# EAGLE library part AE-ESP32-WROOM-32E-MINI (library MyLibrary)
ESP32-DEVKITC Check availability <https://pricing.snapeda.com/parts/ESP32-DEVKITC/Espressif%20Systems/view-part?ref=eda>
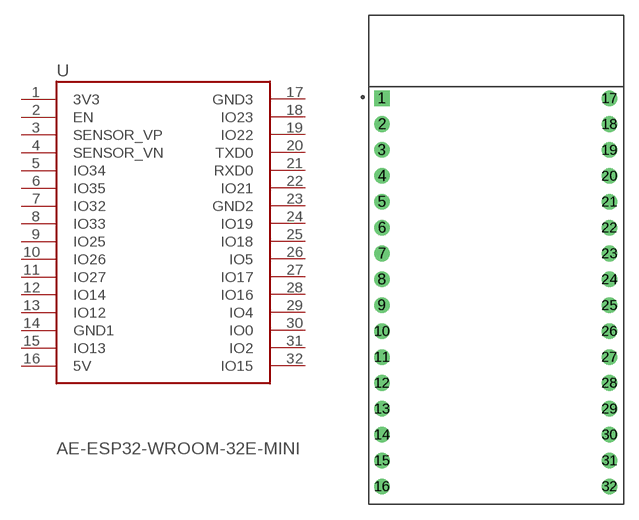
[diagram p0: symbol with the pads of AE-ESP32-WROOM-32E-MINI; footprint AE-ESP32-WROOM-32E-MINI]

Designator prefix U

## AE-ESP32-WROOM-32E-MINI (AVAILABILITY: In Stock; DESCRIPTION: ESP32-WROOM-32UE series Transceiver; 802.11 b/g/n (Wi-Fi, WiFi, WLAN), Bluetooth ® Smart Ready 4.x Dual Mode Evaluation Board; MF: Espressif Systems; MP: ESP32-DEVKITC; PACKAGE: None; PRICE: None; PURCHASE-URL: https://pricing.snapeda.com/search/part/ESP32-DEVKITC/?ref=eda)  [AE-ESP32-WROOM-32E-MINI]
1  3V3  pwr
2  EN  in
3  SENSOR_VP  in
4  SENSOR_VN  in
5  IO34
6  IO35
7  IO32
8  IO33
9  IO25
10  IO26
11  IO27
12  IO14
13  IO12
14  GND1  pwr
15  IO13
16  5V
17  GND3  pwr
18  IO23
19  IO22
20  TXD0  out
21  RXD0  in
22  IO21
23  GND2  pwr
24  IO19
25  IO18
26  IO5
27  IO17
28  IO16
29  IO4
30  IO0
31  IO2
32  IO15

## Footprint AE-ESP32-WROOM-32E-MINI (pad centres in mm)
drill 1.02 square: 1 -12.7,22.85
drill 1.02: 2 -12.7,20.31; 3 -12.7,17.77; 4 -12.7,15.23; 5 -12.7,12.69; 6 -12.7,10.15; 7 -12.7,7.61; 8 -12.7,5.07; 9 -12.7,2.53; 10 -12.7,-0.01; 11 -12.7,-2.55; 12 -12.7,-5.09; 13 -12.7,-7.63; 14 -12.7,-10.17; 15 -12.7,-12.71; 16 -12.7,-15.25; 17 9.62,22.85; 18 9.62,20.31; 19 9.62,17.77; 20 9.62,15.23; 21 9.62,12.69; 22 9.62,10.15; 23 9.62,7.61; 24 9.62,5.07; 25 9.62,2.53; 26 9.62,-0.01; 27 9.62,-2.55; 28 9.62,-5.09; 29 9.62,-7.63; 30 9.62,-10.17; 31 9.62,-12.71; 32 9.62,-15.25